# Altium schematic symbol library ultrasonic sensorSchlib1.SchLib: 1 symbol
Pins are listed as number, name and electrical type; pins without a type are passive.

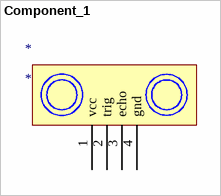
[diagram p0: symbol Component_1]

## Component_1
designator *
footprint PCBComponent_1
pins: 1 vcc, 2 trig, 3 echo, 4 gnd